# Altium footprint library HVPSlibrary.PcbLib: 149 footprints (part 8 of 11)
Each footprint in its own frame and in the unit in brackets; x right, y up, seen from the top. Pads: shape width x height; smd on the part's side, far side on the other; paste and mask are expansions set on the pad; w line width, h text height; cw(c..) or ccw(c..) is an arc to the next point about the centre after c.
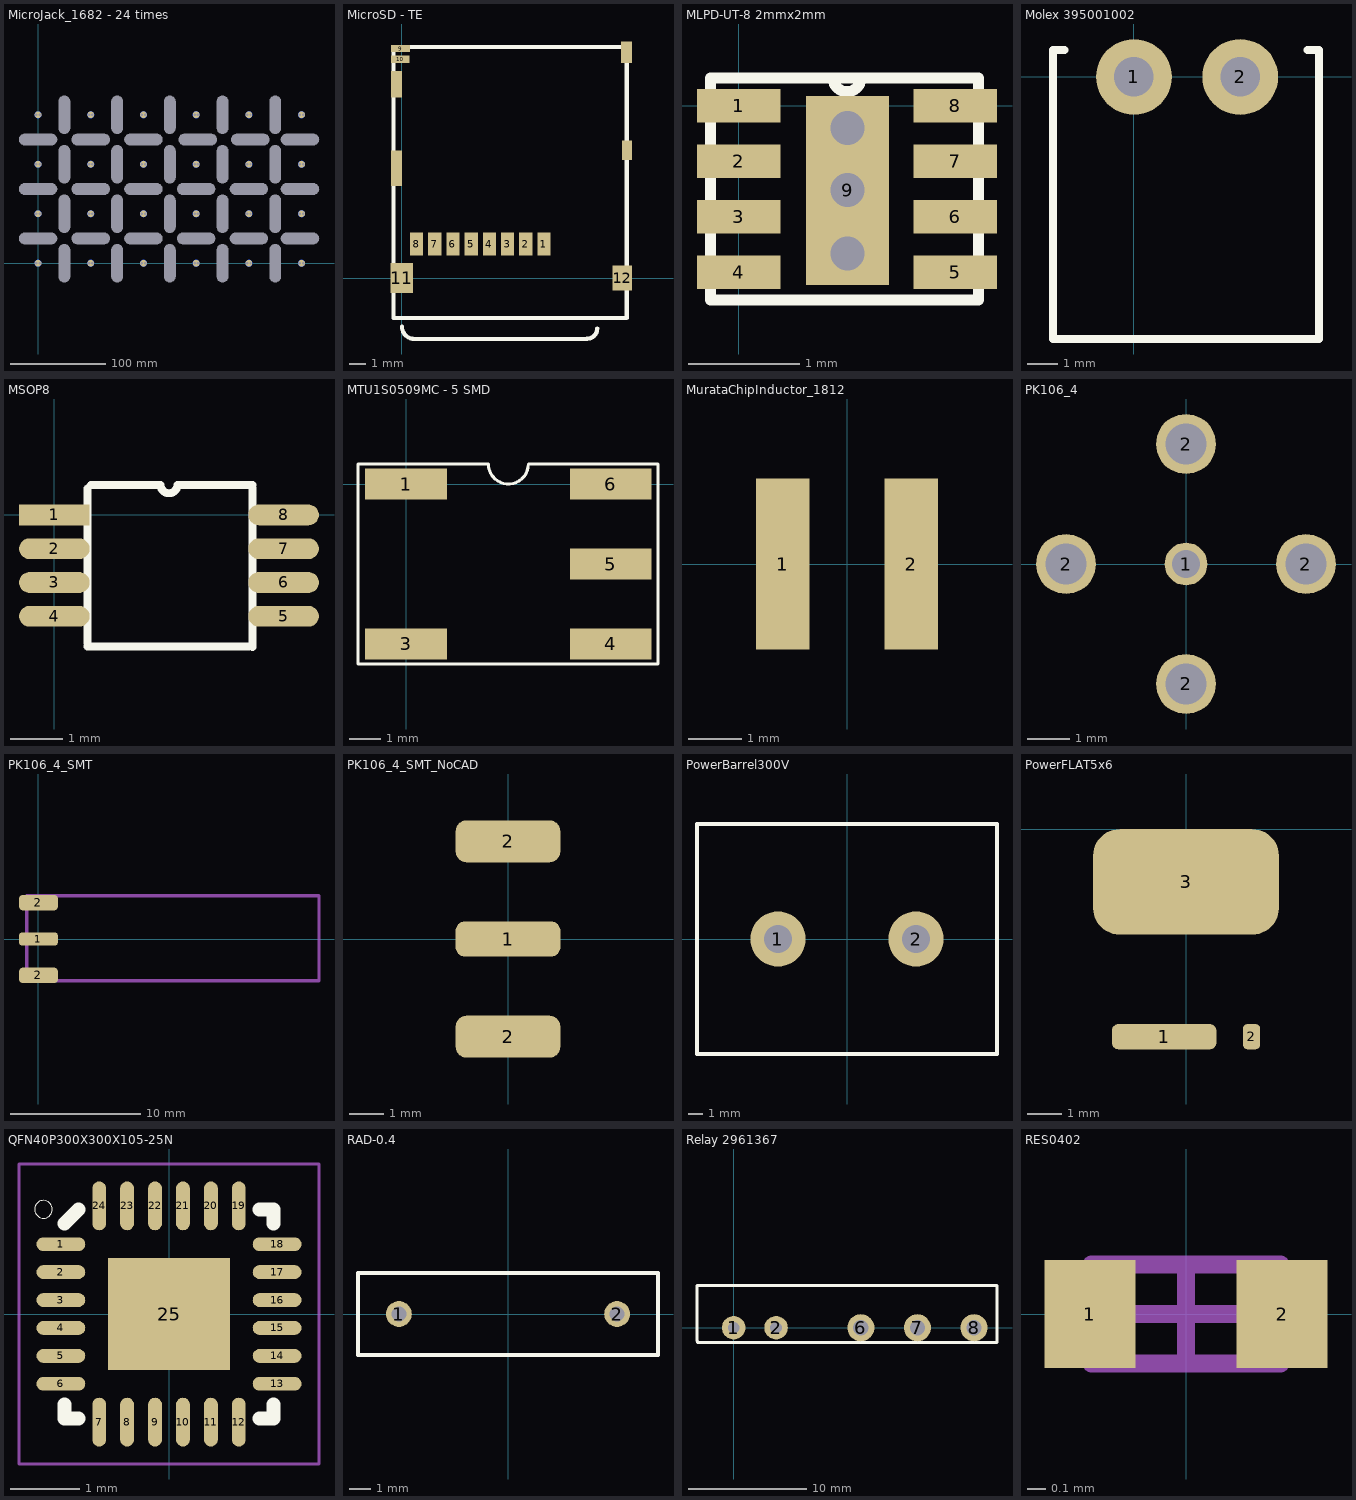
[diagram p7: the footprints below, top view; thin cyan lines are the x and y axes]

## MicroJack_1682 - 24 times [mm]
pads (157):
  round 3.5 hole 2.55: 1(-1.7,0) 1(-1.7,0) 1(-1.7,52) 1(-1.7,104) 1(-1.7,156) 1(1.7,0) 1(1.7,0) 1(1.7,52) 1(1.7,104) 1(1.7,156) 1(53.7,0) 1(53.7,0) 1(53.7,52) 1(53.7,104) 1(53.7,156) 1(57.1,0) 1(57.1,0) 1(57.1,52) 1(57.1,104) 1(57.1,156) 1(109.1,0) 1(109.1,0) 1(109.1,52) 1(109.1,104) 1(109.1,156) 1(112.5,0) 1(112.5,0) 1(112.5,52) 1(112.5,104) 1(112.5,156) 1(164.5,0) 1(164.5,0) 1(164.5,52) 1(164.5,104) 1(164.5,156) 1(167.9,0) 1(167.9,0) 1(167.9,52) 1(167.9,104) 1(167.9,156) 1(219.9,0) 1(219.9,0) 1(219.9,52) 1(219.9,104) 1(219.9,156) 1(223.3,0) 1(223.3,0) 1(223.3,52) 1(223.3,104) 1(223.3,156) 1(275.3,0) 1(275.3,0) 1(275.3,52) 1(275.3,104) 1(275.3,156) 1(278.7,0) 1(278.7,0) 1(278.7,52) 1(278.7,104) 1(278.7,156)
  round 7 smd: 1(0,0) 1(0,0) 1(0,52) 1(0,104) 1(0,156) 1(55.4,0) 1(55.4,0) 1(55.4,0) 1(55.4,52) 1(55.4,104) 1(55.4,156) 1(110.8,0) 1(110.8,0) 1(110.8,0) 1(110.8,52) 1(110.8,104) 1(110.8,156) 1(166.2,0) 1(166.2,0) 1(166.2,0) 1(166.2,52) 1(166.2,104) 1(166.2,156) 1(221.6,0) 1(221.6,0) 1(221.6,0) 1(221.6,52) 1(221.6,104) 1(221.6,156) 1(277,0) 1(277,0) 1(277,0) 1(277,52) 1(277,104) 1(277,156)
  round 7 smd far side: 1(0,0) 1(0,52) 1(0,104) 1(0,156) 1(55.4,0) 1(55.4,52) 1(55.4,104) 1(55.4,156) 1(110.8,0) 1(110.8,52) 1(110.8,104) 1(110.8,156) 1(166.2,0) 1(166.2,52) 1(166.2,104) 1(166.2,156) 1(221.6,0) 1(221.6,52) 1(221.6,104) 1(221.6,156) 1(277,0) 1(277,52) 1(277,104) 1(277,156)
  round 0 hole 12 slot 40 at 0 deg unplated: 1(0,26) 1(0,78) 1(0,130) 1(55.4,130) 1(55.4,26) 1(55.4,78) 1(110.8,26) 1(110.8,78) 1(110.8,130) 1(166.2,26) 1(166.2,78) 1(167.9,130) 1(221.6,26) 1(221.6,78) 1(223.1,130) 1(275.3,26) 1(275.3,78) 1(275.3,130)
  round 0 hole 12 slot 40 at 90 deg unplated: 1(27.7,0) 1(27.7,52) 1(27.7,104) 1(27.7,156) 1(83.1,0) 1(83.1,52) 1(83.1,104) 1(83.1,156) 1(138.5,0) 1(138.5,52) 1(138.5,104) 1(138.5,156) 1(193.9,0) 1(193.9,52) 1(193.9,104) 1(193.9,156) 1(249.3,0) 1(249.3,52) 1(249.3,104) 1(249.3,156)
3D body "keystone-PN1361-2.STEP": height 4, standoff -4.74, extent 0.306,-1.194 2.694,1.194
3D body "keystone-PN1361-2.STEP": height 4, standoff -4.74, extent 277.306,154.806 279.694,157.194
3D body "keystone-PN1682.STEP": height 0.92, standoff -4.49, extent 273.749,154.451 276.797,157.499
3D body "keystone-PN1682.STEP": height 0.92, standoff -4.49, extent 277.191,154.463 280.239,157.511
3D body "keystone-PN1361-2.STEP": height 4, standoff -4.74, extent 274.306,154.806 276.694,157.194
3D body "keystone-PN1361-2.STEP": height 4, standoff -4.74, extent 221.906,154.806 224.294,157.194
3D body "keystone-PN1682.STEP": height 0.92, standoff -4.49, extent 218.349,154.451 221.397,157.499
3D body "keystone-PN1682.STEP": height 0.92, standoff -4.49, extent 221.791,154.463 224.839,157.511
3D body "keystone-PN1361-2.STEP": height 4, standoff -4.74, extent 218.906,154.806 221.294,157.194
3D body "keystone-PN1361-2.STEP": height 4, standoff -4.74, extent 166.506,154.806 168.894,157.194
3D body "keystone-PN1682.STEP": height 0.92, standoff -4.49, extent 162.949,154.451 165.997,157.499
3D body "keystone-PN1682.STEP": height 0.92, standoff -4.49, extent 166.391,154.463 169.439,157.511
3D body "keystone-PN1361-2.STEP": height 4, standoff -4.74, extent 163.506,154.806 165.894,157.194
3D body "keystone-PN1361-2.STEP": height 4, standoff -4.74, extent 111.106,154.806 113.494,157.194
3D body "keystone-PN1682.STEP": height 0.92, standoff -4.49, extent 107.549,154.451 110.597,157.499
3D body "keystone-PN1682.STEP": height 0.92, standoff -4.49, extent 110.991,154.463 114.039,157.511
3D body "keystone-PN1361-2.STEP": height 4, standoff -4.74, extent 108.106,154.806 110.494,157.194
3D body "keystone-PN1361-2.STEP": height 4, standoff -4.74, extent 55.706,154.806 58.094,157.194
3D body "keystone-PN1682.STEP": height 0.92, standoff -4.49, extent 52.149,154.451 55.197,157.499
3D body "keystone-PN1682.STEP": height 0.92, standoff -4.49, extent 55.591,154.463 58.639,157.511
3D body "keystone-PN1361-2.STEP": height 4, standoff -4.74, extent 52.706,154.806 55.094,157.194
3D body "keystone-PN1682.STEP": height 0.92, standoff -4.49, extent -3.251,154.451 -0.203,157.499
3D body "keystone-PN1682.STEP": height 0.92, standoff -4.49, extent 0.191,154.463 3.238,157.511
3D body "keystone-PN1361-2.STEP": height 4, standoff -4.74, extent -2.694,154.806 -0.306,157.194
3D body "keystone-PN1361-2.STEP": height 4, standoff -4.74, extent 0.306,154.806 2.694,157.194
3D body "keystone-PN1361-2.STEP": height 4, standoff -4.74, extent 277.306,102.806 279.694,105.194
3D body "keystone-PN1682.STEP": height 0.92, standoff -4.49, extent 273.749,102.451 276.797,105.499
3D body "keystone-PN1682.STEP": height 0.92, standoff -4.49, extent 277.191,102.463 280.239,105.511
3D body "keystone-PN1361-2.STEP": height 4, standoff -4.74, extent 274.306,102.806 276.694,105.194
3D body "keystone-PN1361-2.STEP": height 4, standoff -4.74, extent 221.906,102.806 224.294,105.194
3D body "keystone-PN1682.STEP": height 0.92, standoff -4.49, extent 218.349,102.451 221.397,105.499
3D body "keystone-PN1682.STEP": height 0.92, standoff -4.49, extent 221.791,102.463 224.839,105.511
3D body "keystone-PN1361-2.STEP": height 4, standoff -4.74, extent 218.906,102.806 221.294,105.194
3D body "keystone-PN1361-2.STEP": height 4, standoff -4.74, extent 166.506,102.806 168.894,105.194
3D body "keystone-PN1682.STEP": height 0.92, standoff -4.49, extent 162.949,102.451 165.997,105.499
3D body "keystone-PN1682.STEP": height 0.92, standoff -4.49, extent 166.391,102.463 169.439,105.511
3D body "keystone-PN1361-2.STEP": height 4, standoff -4.74, extent 163.506,102.806 165.894,105.194
3D body "keystone-PN1361-2.STEP": height 4, standoff -4.74, extent 111.106,102.806 113.494,105.194
3D body "keystone-PN1682.STEP": height 0.92, standoff -4.49, extent 107.549,102.451 110.597,105.499
3D body "keystone-PN1682.STEP": height 0.92, standoff -4.49, extent 110.991,102.463 114.039,105.511
3D body "keystone-PN1361-2.STEP": height 4, standoff -4.74, extent 108.106,102.806 110.494,105.194
3D body "keystone-PN1361-2.STEP": height 4, standoff -4.74, extent 55.706,102.806 58.094,105.194
3D body "keystone-PN1682.STEP": height 0.92, standoff -4.49, extent 52.149,102.451 55.197,105.499
3D body "keystone-PN1682.STEP": height 0.92, standoff -4.49, extent 55.591,102.463 58.639,105.511
3D body "keystone-PN1361-2.STEP": height 4, standoff -4.74, extent 52.706,102.806 55.094,105.194
3D body "keystone-PN1682.STEP": height 0.92, standoff -4.49, extent -3.251,102.451 -0.203,105.499
3D body "keystone-PN1682.STEP": height 0.92, standoff -4.49, extent 0.191,102.463 3.238,105.511
3D body "keystone-PN1361-2.STEP": height 4, standoff -4.74, extent -2.694,102.806 -0.306,105.194
3D body "keystone-PN1361-2.STEP": height 4, standoff -4.74, extent 0.306,102.806 2.694,105.194
3D body "keystone-PN1361-2.STEP": height 4, standoff -4.74, extent 277.306,50.806 279.694,53.194
3D body "keystone-PN1682.STEP": height 0.92, standoff -4.49, extent 273.749,50.451 276.797,53.499
3D body "keystone-PN1682.STEP": height 0.92, standoff -4.49, extent 277.191,50.463 280.239,53.511
3D body "keystone-PN1361-2.STEP": height 4, standoff -4.74, extent 274.306,50.806 276.694,53.194
3D body "keystone-PN1361-2.STEP": height 4, standoff -4.74, extent 221.906,50.806 224.294,53.194
3D body "keystone-PN1682.STEP": height 0.92, standoff -4.49, extent 218.349,50.451 221.397,53.499
3D body "keystone-PN1682.STEP": height 0.92, standoff -4.49, extent 221.791,50.463 224.839,53.511
3D body "keystone-PN1361-2.STEP": height 4, standoff -4.74, extent 218.906,50.806 221.294,53.194
3D body "keystone-PN1361-2.STEP": height 4, standoff -4.74, extent 166.506,50.806 168.894,53.194
3D body "keystone-PN1682.STEP": height 0.92, standoff -4.49, extent 162.949,50.451 165.997,53.499
3D body "keystone-PN1682.STEP": height 0.92, standoff -4.49, extent 166.391,50.463 169.439,53.511
3D body "keystone-PN1361-2.STEP": height 4, standoff -4.74, extent 163.506,50.806 165.894,53.194
3D body "keystone-PN1361-2.STEP": height 4, standoff -4.74, extent 111.106,50.806 113.494,53.194
3D body "keystone-PN1682.STEP": height 0.92, standoff -4.49, extent 107.549,50.451 110.597,53.499
3D body "keystone-PN1682.STEP": height 0.92, standoff -4.49, extent 110.991,50.463 114.039,53.511
3D body "keystone-PN1361-2.STEP": height 4, standoff -4.74, extent 108.106,50.806 110.494,53.194
3D body "keystone-PN1361-2.STEP": height 4, standoff -4.74, extent 55.706,50.806 58.094,53.194
3D body "keystone-PN1682.STEP": height 0.92, standoff -4.49, extent 52.149,50.451 55.197,53.499
3D body "keystone-PN1682.STEP": height 0.92, standoff -4.49, extent 55.591,50.463 58.639,53.511
3D body "keystone-PN1361-2.STEP": height 4, standoff -4.74, extent 52.706,50.806 55.094,53.194
3D body "keystone-PN1682.STEP": height 0.92, standoff -4.49, extent -3.251,50.451 -0.203,53.499
3D body "keystone-PN1682.STEP": height 0.92, standoff -4.49, extent 0.191,50.463 3.238,53.511
3D body "keystone-PN1361-2.STEP": height 4, standoff -4.74, extent -2.694,50.806 -0.306,53.194
3D body "keystone-PN1361-2.STEP": height 4, standoff -4.74, extent 0.306,50.806 2.694,53.194
3D body "keystone-PN1361-2.STEP": height 4, standoff -4.74, extent 277.306,-1.194 279.694,1.194
3D body "keystone-PN1682.STEP": height 0.92, standoff -4.49, extent 273.749,-1.549 276.797,1.499
3D body "keystone-PN1682.STEP": height 0.92, standoff -4.49, extent 277.191,-1.537 280.239,1.511
3D body "keystone-PN1361-2.STEP": height 4, standoff -4.74, extent 274.306,-1.194 276.694,1.194
3D body "keystone-PN1361-2.STEP": height 4, standoff -4.74, extent 221.906,-1.194 224.294,1.194
3D body "keystone-PN1682.STEP": height 0.92, standoff -4.49, extent 218.349,-1.549 221.397,1.499
3D body "keystone-PN1682.STEP": height 0.92, standoff -4.49, extent 221.791,-1.537 224.839,1.511
3D body "keystone-PN1361-2.STEP": height 4, standoff -4.74, extent 218.906,-1.194 221.294,1.194
3D body "keystone-PN1361-2.STEP": height 4, standoff -4.74, extent 166.506,-1.194 168.894,1.194
3D body "keystone-PN1682.STEP": height 0.92, standoff -4.49, extent 162.949,-1.549 165.997,1.499
3D body "keystone-PN1682.STEP": height 0.92, standoff -4.49, extent 166.391,-1.537 169.439,1.511
3D body "keystone-PN1361-2.STEP": height 4, standoff -4.74, extent 163.506,-1.194 165.894,1.194
3D body "keystone-PN1361-2.STEP": height 4, standoff -4.74, extent 111.106,-1.194 113.494,1.194
3D body "keystone-PN1682.STEP": height 0.92, standoff -4.49, extent 107.549,-1.549 110.597,1.499
3D body "keystone-PN1682.STEP": height 0.92, standoff -4.49, extent 110.991,-1.537 114.039,1.511
3D body "keystone-PN1361-2.STEP": height 4, standoff -4.74, extent 108.106,-1.194 110.494,1.194
3D body "keystone-PN1361-2.STEP": height 4, standoff -4.74, extent 55.706,-1.194 58.094,1.194
3D body "keystone-PN1682.STEP": height 0.92, standoff -4.49, extent 52.149,-1.549 55.197,1.499
3D body "keystone-PN1682.STEP": height 0.92, standoff -4.49, extent 55.591,-1.537 58.639,1.511
3D body "keystone-PN1361-2.STEP": height 4, standoff -4.74, extent 52.706,-1.194 55.094,1.194
3D body "keystone-PN1682.STEP": height 0.92, standoff -4.49, extent -3.251,-1.549 -0.203,1.499
3D body "keystone-PN1682.STEP": height 0.92, standoff -4.49, extent 0.191,-1.537 3.238,1.511
3D body "keystone-PN1361-2.STEP": height 4, standoff -4.74, extent -2.694,-1.194 -0.306,1.194
3D body "keystone-PN1361-2.STEP": height 4, standoff -4.74, extent 0.306,-1.194 2.694,1.194
3D body "keystone-PN1361-2.STEP": height 4, standoff -4.74, extent -2.694,-1.194 -0.306,1.194
3D body "keystone-PN1682.STEP": height 0.92, standoff -4.49, extent 0.191,-1.537 3.238,1.511
3D body "keystone-PN1682.STEP": height 0.92, standoff -4.49, extent -3.251,-1.549 -0.203,1.499
3D body "keystone-PN1361-2.STEP": height 4, standoff -4.74, extent 52.706,-1.194 55.094,1.194
3D body "keystone-PN1682.STEP": height 0.92, standoff -4.49, extent 55.591,-1.537 58.639,1.511
3D body "keystone-PN1682.STEP": height 0.92, standoff -4.49, extent 52.149,-1.549 55.197,1.499
3D body "keystone-PN1361-2.STEP": height 4, standoff -4.74, extent 55.706,-1.194 58.094,1.194
3D body "keystone-PN1361-2.STEP": height 4, standoff -4.74, extent 108.106,-1.194 110.494,1.194
3D body "keystone-PN1682.STEP": height 0.92, standoff -4.49, extent 110.991,-1.537 114.039,1.511
3D body "keystone-PN1682.STEP": height 0.92, standoff -4.49, extent 107.549,-1.549 110.597,1.499
3D body "keystone-PN1361-2.STEP": height 4, standoff -4.74, extent 111.106,-1.194 113.494,1.194
3D body "keystone-PN1361-2.STEP": height 4, standoff -4.74, extent 163.506,-1.194 165.894,1.194
3D body "keystone-PN1682.STEP": height 0.92, standoff -4.49, extent 166.391,-1.537 169.439,1.511
3D body "keystone-PN1682.STEP": height 0.92, standoff -4.49, extent 162.949,-1.549 165.997,1.499
3D body "keystone-PN1361-2.STEP": height 4, standoff -4.74, extent 166.506,-1.194 168.894,1.194
3D body "keystone-PN1361-2.STEP": height 4, standoff -4.74, extent 218.906,-1.194 221.294,1.194
3D body "keystone-PN1682.STEP": height 0.92, standoff -4.49, extent 221.791,-1.537 224.839,1.511
3D body "keystone-PN1682.STEP": height 0.92, standoff -4.49, extent 218.349,-1.549 221.397,1.499
3D body "keystone-PN1361-2.STEP": height 4, standoff -4.74, extent 221.906,-1.194 224.294,1.194
3D body "keystone-PN1361-2.STEP": height 4, standoff -4.74, extent 274.306,-1.194 276.694,1.194
3D body "keystone-PN1682.STEP": height 0.92, standoff -4.49, extent 277.191,-1.537 280.239,1.511
3D body "keystone-PN1682.STEP": height 0.92, standoff -4.49, extent 273.749,-1.549 276.797,1.499
3D body "keystone-PN1361-2.STEP": height 4, standoff -4.74, extent 277.306,-1.194 279.694,1.194

## MicroSD - TE [mm] "MicroSD from TE"
pads (16):
  rect 0.8x1.4 smd: 1(8.59,2.05) 2(7.49,2.05) 3(6.39,2.05) 4(5.29,2.05) 5(4.19,2.05) 6(3.09,2.05) 7(1.99,2.05) 8(0.89,2.05)
  rect 1.15x0.45 smd: 9(-0.075,13.875)
  rect 1.1x0.45 smd: 10(-0.1,13.215)
  rect 1.35x1.8 smd: 11(0,0)
  rect 1.16x1.5 smd: 12(13.32,0)
  rect 0.65x2.14 smd: ""(-0.325,6.63)
  rect 0.65x1.6 smd: ""(-0.325,11.71)
  rect 0.65x1.3 smd: ""(13.575,13.65)
  rect 0.6x1.15 smd: ""(13.6,7.725)
Top Overlay:
  lines w0.254: 0,-2.921 ccw(c0.762,-2.921) 0.762,-3.683 11.192,-3.683 ; 11.192,-3.667 ccw(c11.192,-3.048) 11.811,-3.048 ; -0.508,-2.413 -0.508,13.97 13.589,13.97 13.589,-2.413 11.176,-2.413 1.905,-2.413 -0.508,-2.413
3D body "c-2201778-1-a-3d.stp": height 1.75, standoff -0.05, extent -0.427,-2.24 13.603,13.96

## MLPD-UT-8 2mmx2mm [mm]
pads (9):
  rect 0.75x0.3 smd: 1(0,0) 2(0,-0.5) 3(0,-1) 4(0,-1.5) 5(1.95,-1.5) 6(1.95,-1) 7(1.95,-0.5) 8(1.95,0)
  rect 0.75x1.7 smd: 9(0.98,-0.762)
via 0.98,-0.2 diameter 0.559 hole 0.305
via 0.98,-0.76 diameter 0.559 hole 0.305
via 0.98,-1.33 diameter 0.559 hole 0.305
Top Overlay:
  lines w0.1: -0.254,-1.75 -0.254,0.25 1.1,0.25 cw(c0.975,0.25) 0.85,0.25 2.159,0.25 2.159,-1.75 -0.254,-1.75

## Molex 395001002 [mm]
pads (2):
  round 2.5 hole 1.3: 1(0,0) 2(3.5,0)
Top Overlay:
  lines w0.254: -2.286,0.889 -2.667,0.889 -2.667,-8.636 6.096,-8.636 6.096,0.889 5.715,0.889
3D body "395021002.stp": height 6.86, standoff -3.56, extent -2.426,-8.382 5.982,0.762
3D body "395000002.stp": height 7.68, standoff -3.5, extent -2.083,-18.923 5.715,-3.429

## MSOP8 [mm]
pads (8):
  rect 1.36x0.4 smd: 1(0,0)
  oval 1.36x0.4 smd: 2(0,-0.65) 3(0,-1.3) 4(0,-1.95) 5(4.41,-1.95) 6(4.41,-1.3) 7(4.41,-0.65) 8(4.41,0)
Top Overlay:
  lines w0.152: 0.635,-2.529 3.735,-2.529 ; 0.635,-2.465 0.635,0.508 ; 0.706,0.579 2.043,0.579 ccw(c2.205,0.579) 2.367,0.579 3.81,0.579 ; 3.81,-2.54 3.81,0.508
3D body: height 1.1, standoff 0, extent 0.635,-2.54 3.81,0.508

## MTU1S0509MC - 5 SMD [mm]
pads (5):
  rect 2.6x1 smd: 1(0,0) 3(0,-5.08) 4(6.5,-5.08) 5(6.5,-2.54) 6(6.5,0)
Top Overlay:
  lines w0.1: -1.524,-5.715 -1.524,0.635 2.615,0.635 ccw(c3.25,0.635) 3.885,0.635 8.001,0.635 8.001,-5.715 -1.524,-5.715
3D body: height 8.5, standoff 0, extent -1.016,-5.715 7.493,0.635

## MurataChipInductor_1812 [mm]
pads (2):
  rect 1x3.2 smd: 1(-1.2,0) 2(1.2,0)

## PK106_4 [mm]
pads (5):
  round 1 hole 0.65: 1(0,0)
  round 1.4 hole 0.95: 2(-2.8,0) 2(0,-2.8) 2(0,2.8) 2(2.8,0)
Bottom Overlay:
  lines w0.254: -2.62,0.989 cw(c0,0) -0.979,2.623 ; -2.614,-1.003 ccw(c0,0) -1.009,-2.612 ; 1.034,2.578 cw(c0,0) 2.592,0.996 ; 1.038,-2.601 ccw(c0,0) 2.596,-1.049
3D body "PK106_4.STEP": height 20, standoff -2.5, extent -3.275,-3.275 3.275,3.275
3D body "STEP_Atten_Probe_surpressed.STEP": height 147.54, standoff 18.54, extent -8.959,-8.959 8.959,8.959

## PK106_4_SMT [mm]
pads (3):
  rrect50% 3x1 smd: 1(0,0)
  rrect50% 3x1.2 smd: 2(0,-2.8) 2(0,2.8)
Mechanical 1:
  lines w0.254: -0.912,-3.224 -0.912,3.326 21.588,3.326 21.588,-3.224 -0.912,-3.224
3D body "PK106_4.STEP": height 3.72, standoff -2.83, extent -0.912,-3.224 21.588,3.326

## PK106_4_SMT_NoCAD [mm]
pads (3):
  rrect50% 3x1 smd: 1(0,0)
  rrect50% 3x1.2 smd: 2(0,-2.8) 2(0,2.8)

## PowerBarrel300V [mil]
height 650
pads (2):
  round 150 hole 76: 1(-187.5,0) 2(187.5,0)
Top Overlay:
  lines w10: -407.5,-312.5 -407.5,312.5 407.5,312.5 407.5,-312.5 -407.5,-312.5

## PowerFLAT5x6 [mm] "ST"
pads (3):
  rrect50% 3.04x0.73 smd: 1(-0.635,-6.035)
  rrect50% 0.5x0.73 smd: 2(1.905,-6.035)
  rrect50% 5.4x3.07 smd: 3(0,-1.535)

## QFN40P300X300X105-25N [mm]
pads (25):
  oval 0.7x0.2 smd paste-25.4: 1(-1.55,1) 2(-1.55,0.6) 3(-1.55,0.2) 4(-1.55,-0.2) 5(-1.55,-0.6) 6(-1.55,-1) 13(1.55,-1) 14(1.55,-0.6) 15(1.55,-0.2) 16(1.55,0.2) 17(1.55,0.6) 18(1.55,1)
  oval 0.2x0.7 smd paste-25.4: 7(-1,-1.55) 8(-0.6,-1.55) 9(-0.2,-1.55) 10(0.2,-1.55) 11(0.6,-1.55) 12(1,-1.55) 19(1,1.55) 20(0.6,1.55) 21(0.2,1.55) 22(-0.2,1.55) 23(-0.6,1.55) 24(-1,1.55)
  rect 1.75x1.6 smd mask-25.4: 25(0,0)
Top Overlay:
  circle w0: c-1.8,1.5 r0.127
  lines w0.2: -1.5,-1.3 -1.5,-1.5 -1.3,-1.5 ; -1.5,1.3 -1.3,1.5 ; 1.3,-1.5 1.5,-1.5 1.5,-1.3 ; 1.3,1.5 1.5,1.5 1.5,1.3
Top Paste:
  drawing of 48 lines, arcs and shapes, not listed
Top Solder:
  region: -0.875,-0.8 0.875,-0.8 0.875,0.8 -0.875,0.8
Mechanical 1:
  lines w0.05: -2.15,-2.15 -2.15,2.15 2.15,2.15 2.15,-2.15 -2.15,-2.15

## RAD-0.4 [mm] "Radial Cap, Thru-Hole; 2 Leads; 0.4 in Pin Spacing"
pads (2):
  round 1.2 hole 0.7: 1(-5.08,0) 2(5.08,0)
Top Overlay:
  lines w0.2: -6.985,-1.905 -6.985,1.905 6.985,1.905 6.985,-1.905 -6.985,-1.905

## Relay 2961367 [mm] "Relay 2961367"
height 12
pads (5):
  round 2 hole 1: 1(0,0) 2(3.6,0)
  round 2.3 hole 1.3: 6(10.8,0) 7(15.6,0) 8(20.4,0)
Top Overlay:
  lines w0.254: -3.11,3.556 -3.11,-1.143 -3.048,-1.143 -3.048,-1.27 22.352,-1.27 22.352,3.556 22.352,3.6 -3.11,3.6
3D body: height 28, standoff 0, extent -3.048,-1.27 22.352,3.556

## RES0402 [mil] "Chip Resistor, 2-Leads, Body 1.0x0.5mm, IPC Medium Density"
height 19.68
pads (2):
  rect 20x23.62 smd: 1(-21,0) 2(21,0)
Mechanical 13:
  lines w3.94: -20.67,-10.83 -20.67,10.83 20.67,10.83 20.67,-10.83 -20.67,-10.83
Mechanical 15:
  lines w3.94: -10.83,0 10.83,0 ; 0,-10.83 0,10.83
3D body: height 19.68, standoff 0, extent -20.67,-10.83 20.67,10.83